# Altium footprint library ESC_Tester_PCBLIB.PcbLib: 20 footprints (part 2 of 2)
Each footprint in its own frame and in the unit in brackets; x right, y up, seen from the top. Pads: shape width x height; smd on the part's side, far side on the other; paste and mask are expansions set on the pad; w line width, h text height; cw(c..) or ccw(c..) is an arc to the next point about the centre after c.
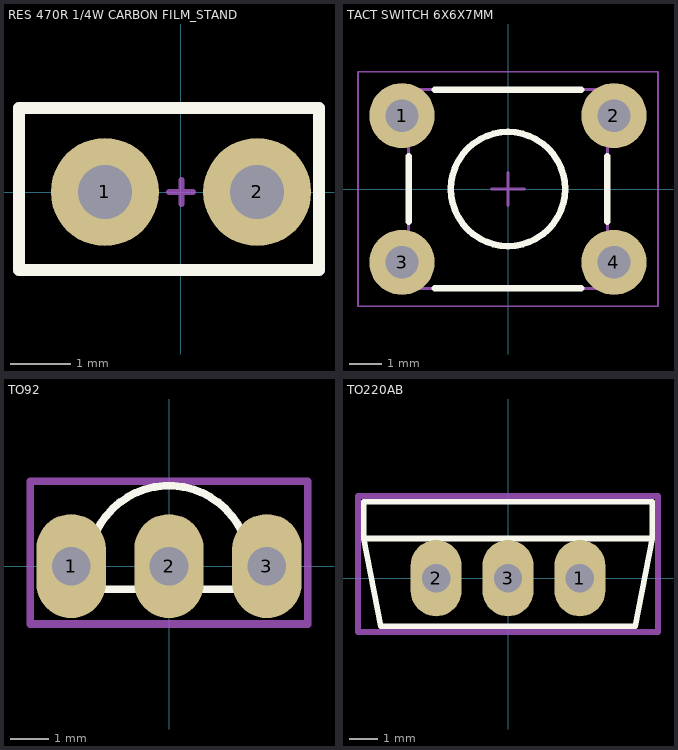
[diagram p1: the footprints below, top view; thin cyan lines are the x and y axes]

## RES 470R 1/4W CARBON FILM_STAND [mm]
pads (2):
  round 1.8 hole 0.9: 1(-1.27,0) 2(1.27,0)
Top Overlay:
  lines w0.2: -2.7,-1.3 -2.7,1.4 2.3,1.4 2.3,-1.3 -2.7,-1.3
Mechanical 15:
  lines w0.1: -0.2,0 0.2,0 ; 0.01,-0.2 0.01,0.2
  lines w0.2: -2.7,-1.3 2.3,-1.3 2.3,1.4 -2.7,1.4 -2.7,-1.3
Mechanical 29:
  text "1" at -2.4,-1 h0.5
  text ".Designator" at -2.4,1.8 h0.5
3D body "RES 470R .25W CARBON FILM_STAND.STEP": height 7.82, standoff -2.03, extent -2.562,-1.2 1.562,1.34

## TACT SWITCH 6X6X7MM [mm] "Tactile Switch 6x6x7mm"
height 7
pads (4):
  round 2 hole 1: 1(-3.25,2.25) 2(3.25,2.25) 3(-3.25,-2.25) 4(3.25,-2.25)
Top Overlay:
  circle w0.2: c0,0 r1.75
  lines w0.2: -3.05,-1 -3.05,1 ; -2.25,-3.05 2.25,-3.05 ; -2.25,3.05 2.25,3.05 ; 3.05,-1 3.05,1
Mechanical 13:
  circle w0.1: c0,0 r1.75
  lines w0.1: -3.05,-3.05 -3.05,3.05 3.05,3.05 3.05,-3.05 -3.05,-3.05
Mechanical 15:
  lines w0.05: -4.6,-3.6 4.6,-3.6 4.6,3.6 -4.6,3.6 -4.6,-3.6
  lines w0.1: -0.5,0 0.5,0 ; 0,-0.5 0,0.5
Mechanical 29:
  text ".Designator" at 0,0 h2
3D body "TACT SWITCH 7MM.STEP": height 7, standoff -3.5, extent -3.95,-3.1 3.95,3.1

## TO92 [mm]
pads (3):
  oval 1.8x2.7 hole 1: 1(-2.54,0) 2(0,0) 3(2.54,0)
Top Overlay:
  lines w0.2: -2,-0.6 cw(c0,0) 2,-0.6 -2,-0.6
Mechanical 15:
  lines w0.1: -0.2,0.35 0.2,0.35 ; 0,0.15 0,0.55
  lines w0.2: -3.6,-1.5 -3.6,2.2 3.6,2.2 3.6,-1.5 -3.6,-1.5
Mechanical 29:
  text "1" at -3.2,1.4 h0.5
  text ".Designator" at -3.4,2.6 h0.5
3D body "TO92.STEP": height 6.83, standoff -1.9, extent -2.74,-0.568 2.74,2.04

## TO220AB [mm]
pads (3):
  oval 1.8x2.7 hole 1: 1(2.54,0) 2(-2.54,0) 3(0,0)
Top Overlay:
  lines w0.2: -5.1,1.4 -5.1,2.7 5.1,2.7 5.1,1.4 ; -5.1,1.4 5.1,1.4 ; -5.1,1.4 -4.5,-1.7 4.5,-1.7 5.1,1.4
Mechanical 15:
  lines w0.1: -0.2,0.5 0.2,0.5 ; 0,0.3 0,0.7
  lines w0.2: -5.3,-1.9 5.3,-1.9 5.3,2.9 -5.3,2.9 -5.3,-1.9
Mechanical 29:
  text ".Designator" at -5.1,3.3 h0.5
  text "1" at -3.9,-1.4 h0.5
3D body "TO220AB.STEP": height 19.34, standoff -1.98, extent -5.15,-1.778 5.15,2.732